# Altium footprint library TPS60400.PcbLib: 9 footprints
Each footprint in its own frame and in the unit in brackets; x right, y up, seen from the top. Pads: shape width x height; smd on the part's side, far side on the other; paste and mask are expansions set on the pad; w line width, h text height; cw(c..) or ccw(c..) is an arc to the next point about the centre after c.
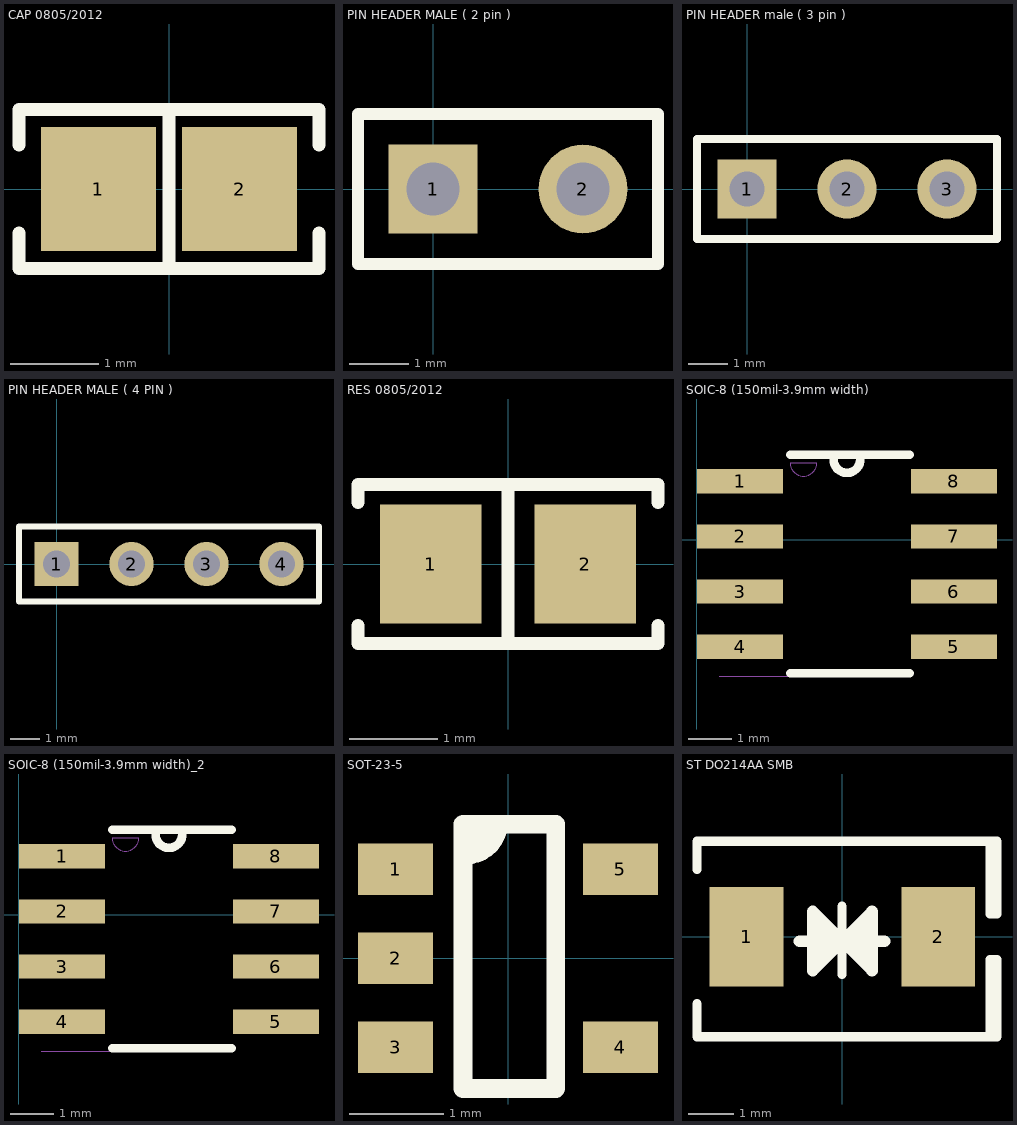
[diagram p0: the footprints below, top view; thin cyan lines are the x and y axes]

## CAP 0805/2012 [mm] "Chip Capacitor, 2-Leads, Body 2.00x1.20mm, IPC Medium Density"
height 1.15
pads (2):
  rect 1.3x1.4 smd: 1(-0.8,0) 2(0.8,0)
Top Overlay:
  lines w0.15: -1.7,-0.5 -1.7,-0.9 1.7,-0.9 1.7,-0.5 ; -1.7,0.5 -1.7,0.9 1.7,0.9 1.7,0.5 ; 0,-0.9 0,0.9
3D body "0805 cap.STEP": height 1.26, standoff -0.02, extent -1,-0.637 1,0.637

## PIN HEADER MALE ( 2 pin ) [mm]
pads (2):
  rect 1.5x1.5 hole 0.9: 1(0,0)
  round 1.5 hole 0.9: 2(2.54,0)
Top Overlay:
  lines w0.2: -1.27,-1.27 -1.27,1.27 3.81,1.27 3.81,-1.27 -1.27,-1.27
3D body "Pin Header 1x2 TH Pitch 2.54mm.stp": height 9.5, standoff -3.2, extent -1.27,-1.3 3.81,1.24

## PIN HEADER male ( 3 pin ) [mm]
pads (3):
  rect 1.5x1.5 hole 0.9: 1(0,0)
  round 1.5 hole 0.9: 2(2.54,0) 3(5.08,0)
Top Overlay:
  lines w0.2: -1.27,-1.27 6.35,-1.27 6.35,1.27 -1.27,1.27 -1.27,-1.27
3D body "Pin Header 1x3 TH Pitch 2.54mm.stp": height 9.5, standoff -3.2, extent -1.3,-1.25 6.32,1.29

## PIN HEADER MALE ( 4 PIN ) [mm]
pads (4):
  rect 1.5x1.5 hole 0.9: 1(0,0)
  round 1.5 hole 0.9: 2(2.54,0) 3(5.08,0) 4(7.62,0)
Top Overlay:
  lines w0.2: -1.27,-1.27 8.89,-1.27 8.89,1.27 -1.27,1.27 -1.27,-1.27
3D body "Pin Header 1x4 TH Pitch 2.54mm.stp": height 9.5, standoff -3.2, extent -1.25,-1.35 8.91,1.19

## RES 0805/2012 [mm] "Chip Resistor, 2-Leads, Body 2.00x1.25mm, IPC Medium Density"
height 0.7
pads (2):
  rect 1.15x1.35 smd: 1(-0.875,0) 2(0.875,0)
Top Overlay:
  lines w0.15: -1.7,-0.7 -1.7,-0.9 1.7,-0.9 1.7,-0.7 ; -1.7,0.7 -1.7,0.9 1.7,0.9 1.7,0.7 ; 0,-0.9 0,0.9
3D body "0805 resistor.STEP": height 0.6, standoff 0, extent -0.95,-0.625 1.05,0.625

## SOIC-8 (150mil-3.9mm width) [mil]
pads (8):
  rect 78x22 smd: 1(39.37,52.95) 2(39.37,2.95) 3(39.37,-47.05) 4(39.37,-97.05) 5(233.37,-97.05) 6(233.37,-47.05) 7(233.37,2.95) 8(233.37,52.95)
Top Overlay:
  lines w7.87: 85.05,-121.07 193.05,-121.07 ; 85.05,76.96 193.05,76.96 ; 124.29,72.57 ccw(c136.29,72.57) 148.29,72.57
Mechanical 1:
  lines w0: 20.68,-124.02 178.68,-124.02 ; 84.92,69.61 ccw(c96.92,69.61) 108.92,69.61 84.92,69.61
3D body "SOIC08 narrow.stp": height 78.74, standoff 0.13, extent 15.49,-121.06 258.13,75.8

## SOIC-8 (150mil-3.9mm width)_2 [mil]
pads (8):
  rect 78x22 smd: 1(39.37,52.95) 2(39.37,2.95) 3(39.37,-47.05) 4(39.37,-97.05) 5(233.37,-97.05) 6(233.37,-47.05) 7(233.37,2.95) 8(233.37,52.95)
Top Overlay:
  lines w7.87: 85.05,-121.07 193.05,-121.07 ; 85.05,76.96 193.05,76.96 ; 124.29,72.57 ccw(c136.29,72.57) 148.29,72.57
Mechanical 1:
  lines w0: 20.68,-124.02 178.68,-124.02 ; 84.92,69.61 ccw(c96.92,69.61) 108.92,69.61 84.92,69.61
3D body "SOIC08 narrow.stp": height 78.74, standoff 0.13, extent 15.49,-121.06 258.13,75.8

## SOT-23-5 [mm] "SOT23, 5-Leads, Body 3.00x2.85mm, Pitch 0.95mm, IPC Medium Density"
height 1.3
pads (5):
  rect 0.8x0.55 smd: 1(-1.2,0.95) 2(-1.2,0) 3(-1.2,-0.95) 4(1.2,-0.95) 5(1.2,0.95)
Top Overlay:
  region: -0.1,1.4 -0.4,1.4 -0.4,1.1 -0.45,1.05 -0.3,1.05 -0.2,1.15
  lines w0.2: -0.45,1.1 ccw(c-0.45,1.45) -0.101,1.42 ; -0.48,-1.39 -0.48,1.43 0.51,1.43 0.51,-1.39 -0.48,-1.39
3D body "SOT-23-5.STEP": height 1.5, standoff 0, extent -1.41,-1.45 1.411,1.45

## ST DO214AA SMB [mm] "Molded Diode, 2-Leads, Body 4.31x3.62mm, IPC Medium Density"
height 2.44
pads (2):
  rect 1.62x2.18 smd: 1(-2.11,0) 2(2.11,0)
Top Overlay:
  lines w0.2: -3.2,-1.475 -3.2,-2.2 3.25,-2.2 ; -3.2,1.475 -3.2,2.1 3.4,2.1 3.4,0.5 3.25,0.5 3.25,2.1 ; -0.01,-0.83 -0.01,0.67 ; 3.25,-2.2 3.25,-0.5 3.4,-0.5 3.4,-2.2 3.25,-2.2
  lines w0.254: -0.945,-0.095 0.925,-0.095 ; -0.55,0.255 -0.25,-0.045 -0.25,-0.145 -0.65,-0.545 -0.65,-0.245 -0.45,-0.045 ; 0.65,0.355 0.65,0.255 0.35,-0.045 ; 0.35,-0.045 0.35,-0.245 0.65,-0.545 0.65,-0.345 0.35,-0.045 ; -0.65,-0.745 0.65,0.555 0.65,-0.745 -0.65,0.555 -0.65,-0.745
3D body "SMB.STEP": height 2.4, standoff 0, extent -2.6,-1.799 2.6,1.8